# EAGLE library part 8L02- (library Eagle3D-Relays)
COTO Technologies - 8L Series Shielded Reed Relays
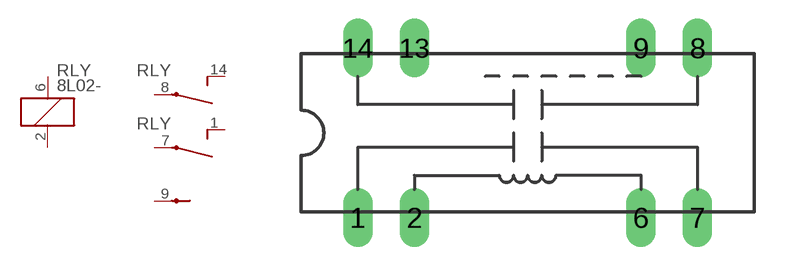
[diagram p3: symbol with the pads of 8L02-ESD; footprint 8L02-ESD]

Designator prefix RLY; gates G$1=COIL G$2=SP-1 G$3=SP-1 G$4=SHIELD

## 8L02-05-1X1  [8L02-ESD]
1  G$2:NO  pas
2  G$1:C1  pas
6  G$1:C2  pas
7  G$2:IN  pas
8  G$3:IN  pas
9  G$4:SHIELD  pas
14  G$3:NO  pas

## 8L02-12-1X1  [8L02-ESD]
Pads as for 8L02-ESD

## 8L02-24-1X1  [8L02-ESD]
Pads as for 8L02-ESD

## Footprint 8L02-ESD (pad centres in mm)
drill 0.813 long: 1 -7.62,-3.81; 2 -5.08,-3.81; 6 5.08,-3.81; 7 7.62,-3.81; 8 7.62,3.81; 9 5.08,3.81; 13 -5.08,3.81; 14 -7.62,3.81